# EAGLE library part DS1339U (library miller)
Maxim DS1339U real time clock µSOP 8-pin package Available in 2.0V, 3.0V, 3.3V versions, check part number This is a different version than DS1339C, which has an internal crystal and larger package
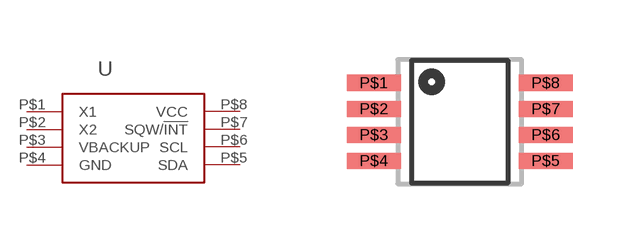
[diagram p24: symbol with the pads of USOP-8; footprint USOP-8]

Designator prefix -

## DS1339U  [USOP-8]
P$1  X1
P$2  X2
P$3  VBACKUP
P$4  GND
P$5  SDA
P$6  SCL
P$7  SQW/!INT
P$8  VCC

## Footprint USOP-8 (pad centres in mm)
Maxim µSOP µMax pattern package code U8+1 http://pdfserv.maximintegrated.com/land_patterns/90-0092.PDF
smd 1.35 x 0.4: P$1 -2.15,0.975; P$2 -2.15,0.325; P$3 -2.15,-0.325; P$4 -2.15,-0.975; P$5 2.15,-0.975; P$6 2.15,-0.325; P$7 2.15,0.325; P$8 2.15,0.975